# Altium schematic symbol library FP6296.SCHLIB: 1 symbol
Pins are listed as number, name and electrical type; pins without a type are passive.

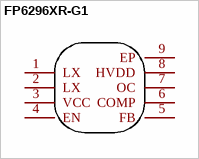
[diagram p0: symbol FP6296XR-G1]

## FP6296XR-G1
designator U??  (value not drawn)
Add into BOM: yes; Number of Outputs: 1; Input Voltage: 2.7V~12V; Output Voltage: 13V; Output Current (Max): 10A; Switching Frequency: 400kHz; Symbol: FP6296XR-G1; Device: FP6296XR-G1; Supplier Part: C133888; Manufacturer Part: FP6296XR-G1; Supplier Footprint: SOP-8-EP-150mil; JLCPCB Part Class: Extended Part; Datasheet: https://atta.szlcsc.com/upload/public/pdf/source/20171014/C133888_15079755382361038280.pdf; Supplier: LCSC; Convert to PCB: yes
footprint SOP-8_L4.9-W3.9-P1.27-LS6.0-BL-EP
pins: 1 LX, 2 LX, 3 VCC, 4 EN, 5 FB, 6 COMP, 7 OC, 8 HVDD, 9 EP